# Altium schematic symbol library RES_RET_0805_1%.SchLib: 141 symbols
Pins are listed as number, name and electrical type; pins without a type are passive.

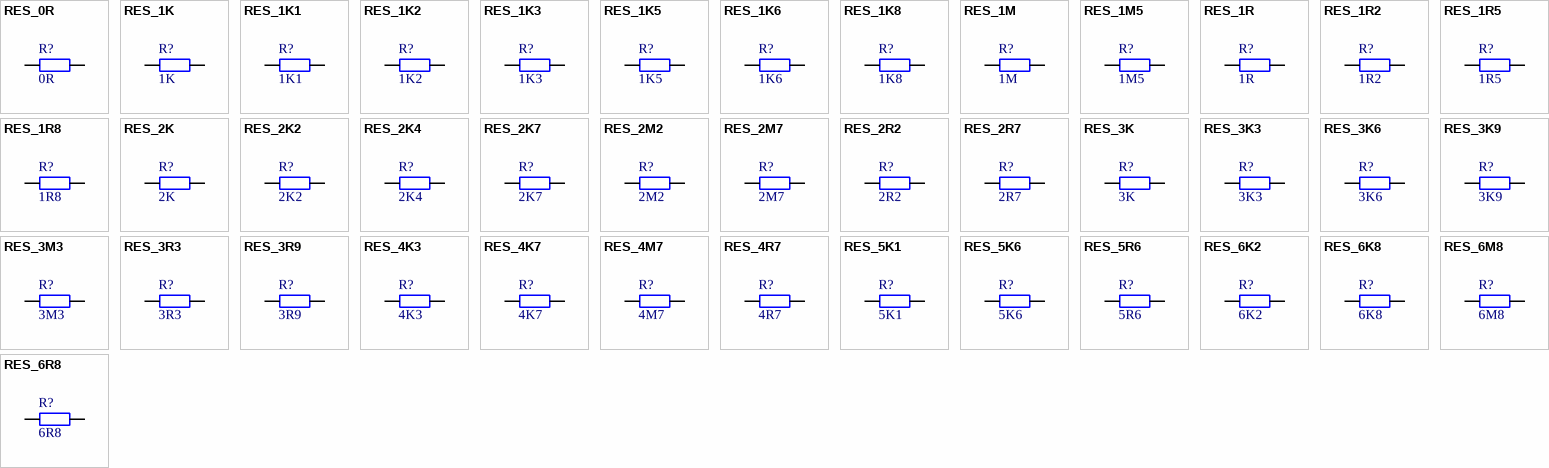
[diagram p0: symbols RES_0R to RES_6R8]

## RES_0R
designator R?, comment 0R
YAGEO SMD RESISTOR; Power: 125 mW; Tolerance: 5%; Supplier: RET 92-02-48
footprint FP_0805_RES (0805 ellenállás)
pins: 1, 2

## RES_1K
designator R?, comment 1K
YAGEO SMD RESISTOR; Power: 125 mW; Tolerance: 1%; Supplier: RET 96-02-06
footprint FP_0805_RES (0805 ellenállás)
pins: 1, 2

## RES_1K1
designator R?, comment 1K1
YAGEO SMD RESISTOR; Power: 125 mW; Tolerance: 1%; Supplier: RET 96-02-07
footprint FP_0805_RES (0805 ellenállás)
pins: 1, 2

## RES_1K2
designator R?, comment 1K2
YAGEO SMD RESISTOR; Power: 125 mW; Tolerance: 1%; Supplier: RET 96-02-08
footprint FP_0805_RES (0805 ellenállás)
pins: 1, 2

## RES_1K3
designator R?, comment 1K3
YAGEO SMD RESISTOR; Power: 125 mW; Tolerance: 1%; Supplier: RET 96-02-09
footprint FP_0805_RES (0805 ellenállás)
pins: 1, 2

## RES_1K5
designator R?, comment 1K5
YAGEO SMD RESISTOR; Power: 125 mW; Tolerance: 1%; Supplier: RET 96-02-10
footprint FP_0805_RES (0805 ellenállás)
pins: 1, 2

## RES_1K6
designator R?, comment 1K6
YAGEO SMD RESISTOR; Power: 125 mW; Tolerance: 1%; Supplier: RET 96-02-11
footprint FP_0805_RES (0805 ellenállás)
pins: 1, 2

## RES_1K8
designator R?, comment 1K8
YAGEO SMD RESISTOR; Power: 125 mW; Tolerance: 1%; Supplier: RET 96-02-12
footprint FP_0805_RES (0805 ellenállás)
pins: 1, 2

## RES_1M
designator R?, comment 1M
YAGEO SMD RESISTOR; Power: 125 mW; Tolerance: 1%; Supplier: RET 96-02-80
footprint FP_0805_RES (0805 ellenállás)
pins: 1, 2

## RES_1M5
designator R?, comment 1M5
YAGEO SMD RESISTOR; Power: 125 mW; Tolerance: 1%; Supplier: RET 96-02-81
footprint FP_0805_RES (0805 ellenállás)
pins: 1, 2

## RES_1R
designator R?, comment 1R
YAGEO SMD RESISTOR; Power: 125 mW; Tolerance: 1%; Supplier: RET 96-01-48
footprint FP_0805_RES (0805 ellenállás)
pins: 1, 2

## RES_1R2
designator R?, comment 1R2
YAGEO SMD RESISTOR; Power: 125 mW; Tolerance: 1%; Supplier: RET 96-01-49
footprint FP_0805_RES (0805 ellenállás)
pins: 1, 2

## RES_1R5
designator R?, comment 1R5
YAGEO SMD RESISTOR; Power: 125 mW; Tolerance: 1%; Supplier: RET 96-01-50
footprint FP_0805_RES (0805 ellenállás)
pins: 1, 2

## RES_1R8
designator R?, comment 1R8
YAGEO SMD RESISTOR; Power: 125 mW; Tolerance: 1%; Supplier: RET 96-01-51
footprint FP_0805_RES (0805 ellenállás)
pins: 1, 2

## RES_2K
designator R?, comment 2K
YAGEO SMD RESISTOR; Power: 125 mW; Tolerance: 1%; Supplier: RET 96-02-13
footprint FP_0805_RES (0805 ellenállás)
pins: 1, 2

## RES_2K2
designator R?, comment 2K2
YAGEO SMD RESISTOR; Power: 125 mW; Tolerance: 1%; Supplier: RET 96-02-14
footprint FP_0805_RES (0805 ellenállás)
pins: 1, 2

## RES_2K4
designator R?, comment 2K4
YAGEO SMD RESISTOR; Power: 125 mW; Tolerance: 1%; Supplier: RET 96-02-15
footprint FP_0805_RES (0805 ellenállás)
pins: 1, 2

## RES_2K7
designator R?, comment 2K7
YAGEO SMD RESISTOR; Power: 125 mW; Tolerance: 1%; Supplier: RET 96-02-16
footprint FP_0805_RES (0805 ellenállás)
pins: 1, 2

## RES_2M2
designator R?, comment 2M2
YAGEO SMD RESISTOR; Power: 125 mW; Tolerance: 1%; Supplier: RET 96-02-82
footprint FP_0805_RES (0805 ellenállás)
pins: 1, 2

## RES_2M7
designator R?, comment 2M7
YAGEO SMD RESISTOR; Power: 125 mW; Tolerance: 1%; Supplier: RET 96-05-23
footprint FP_0805_RES (0805 ellenállás)
pins: 1, 2

## RES_2R2
designator R?, comment 2R2
YAGEO SMD RESISTOR; Power: 125 mW; Tolerance: 1%; Supplier: RET 96-01-52
footprint FP_0805_RES (0805 ellenállás)
pins: 1, 2

## RES_2R7
designator R?, comment 2R7
YAGEO SMD RESISTOR; Power: 125 mW; Tolerance: 1%; Supplier: RET 96-01-53
footprint FP_0805_RES (0805 ellenállás)
pins: 1, 2

## RES_3K
designator R?, comment 3K
YAGEO SMD RESISTOR; Power: 125 mW; Tolerance: 1%; Supplier: RET 96-02-17
footprint FP_0805_RES (0805 ellenállás)
pins: 1, 2

## RES_3K3
designator R?, comment 3K3
YAGEO SMD RESISTOR; Power: 125 mW; Tolerance: 1%; Supplier: RET 96-02-18
footprint FP_0805_RES (0805 ellenállás)
pins: 1, 2

## RES_3K6
designator R?, comment 3K6
YAGEO SMD RESISTOR; Power: 125 mW; Tolerance: 1%; Supplier: RET 96-02-19
footprint FP_0805_RES (0805 ellenállás)
pins: 1, 2

## RES_3K9
designator R?, comment 3K9
YAGEO SMD RESISTOR; Power: 125 mW; Tolerance: 1%; Supplier: RET 96-02-20
footprint FP_0805_RES (0805 ellenállás)
pins: 1, 2

## RES_3M3
designator R?, comment 3M3
YAGEO SMD RESISTOR; Power: 125 mW; Tolerance: 1%; Supplier: RET 96-02-83
footprint FP_0805_RES (0805 ellenállás)
pins: 1, 2

## RES_3R3
designator R?, comment 3R3
YAGEO SMD RESISTOR; Power: 125 mW; Tolerance: 1%; Supplier: RET 96-01-54
footprint FP_0805_RES (0805 ellenállás)
pins: 1, 2

## RES_3R9
designator R?, comment 3R9
YAGEO SMD RESISTOR; Power: 125 mW; Tolerance: 1%; Supplier: RET 96-01-55
footprint FP_0805_RES (0805 ellenállás)
pins: 1, 2

## RES_4K3
designator R?, comment 4K3
YAGEO SMD RESISTOR; Power: 125 mW; Tolerance: 1%; Supplier: RET 96-02-21
footprint FP_0805_RES (0805 ellenállás)
pins: 1, 2

## RES_4K7
designator R?, comment 4K7
YAGEO SMD RESISTOR; Power: 125 mW; Tolerance: 1%; Supplier: RET 96-02-22
footprint FP_0805_RES (0805 ellenállás)
pins: 1, 2

## RES_4M7
designator R?, comment 4M7
YAGEO SMD RESISTOR; Power: 125 mW; Tolerance: 1%; Supplier: RET 96-02-84
footprint FP_0805_RES (0805 ellenállás)
pins: 1, 2

## RES_4R7
designator R?, comment 4R7
YAGEO SMD RESISTOR; Power: 125 mW; Tolerance: 1%; Supplier: RET 96-01-56
footprint FP_0805_RES (0805 ellenállás)
pins: 1, 2

## RES_5K1
designator R?, comment 5K1
YAGEO SMD RESISTOR; Power: 125 mW; Tolerance: 1%; Supplier: RET 96-02-23
footprint FP_0805_RES (0805 ellenállás)
pins: 1, 2

## RES_5K6
designator R?, comment 5K6
YAGEO SMD RESISTOR; Power: 125 mW; Tolerance: 1%; Supplier: RET 96-02-24
footprint FP_0805_RES (0805 ellenállás)
pins: 1, 2

## RES_5R6
designator R?, comment 5R6
YAGEO SMD RESISTOR; Power: 125 mW; Tolerance: 1%; Supplier: RET 96-01-57
footprint FP_0805_RES (0805 ellenállás)
pins: 1, 2

## RES_6K2
designator R?, comment 6K2
YAGEO SMD RESISTOR; Power: 125 mW; Tolerance: 1%; Supplier: RET 96-02-25
footprint FP_0805_RES (0805 ellenállás)
pins: 1, 2

## RES_6K8
designator R?, comment 6K8
YAGEO SMD RESISTOR; Power: 125 mW; Tolerance: 1%; Supplier: RET 96-02-26
footprint FP_0805_RES (0805 ellenállás)
pins: 1, 2

## RES_6M8
designator R?, comment 6M8
YAGEO SMD RESISTOR; Power: 125 mW; Tolerance: 1%; Supplier: RET 96-02-85
footprint FP_0805_RES (0805 ellenállás)
pins: 1, 2

## RES_6R8
designator R?, comment 6R8
YAGEO SMD RESISTOR; Power: 125 mW; Tolerance: 1%; Supplier: RET 96-01-58
footprint FP_0805_RES (0805 ellenállás)
pins: 1, 2

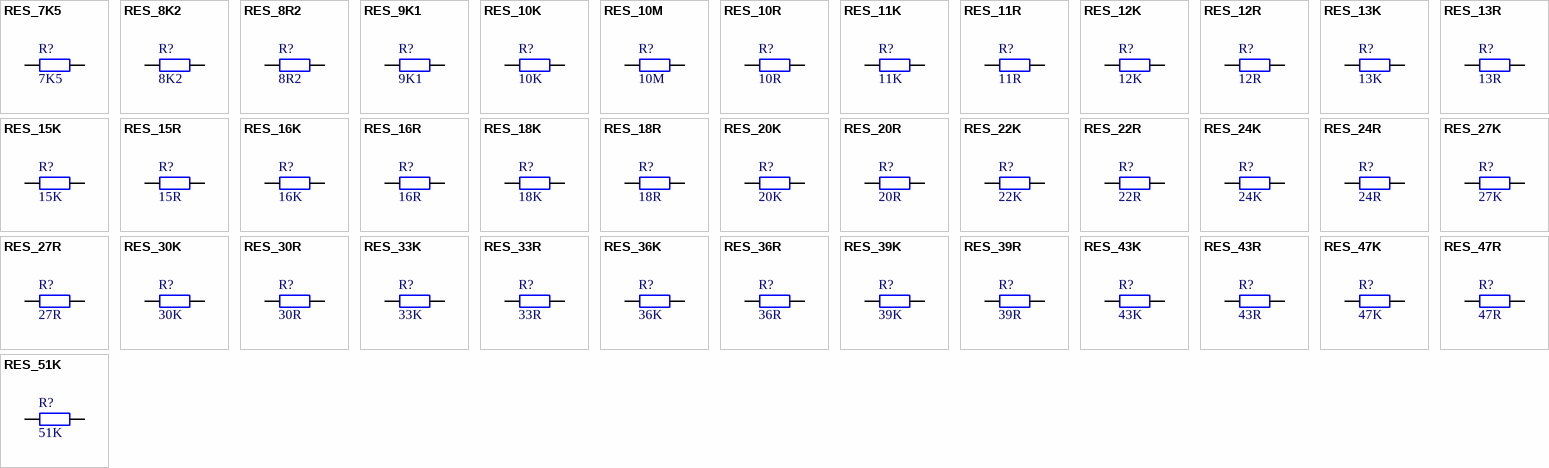
[diagram p1: symbols RES_7K5 to RES_51K]

## RES_7K5
designator R?, comment 7K5
YAGEO SMD RESISTOR; Power: 125 mW; Tolerance: 1%; Supplier: RET 96-02-27
footprint FP_0805_RES (0805 ellenállás)
pins: 1, 2

## RES_8K2
designator R?, comment 8K2
YAGEO SMD RESISTOR; Power: 125 mW; Tolerance: 1%; Supplier: RET 96-02-28
footprint FP_0805_RES (0805 ellenállás)
pins: 1, 2

## RES_8R2
designator R?, comment 8R2
YAGEO SMD RESISTOR; Power: 125 mW; Tolerance: 1%; Supplier: RET 96-01-59
footprint FP_0805_RES (0805 ellenállás)
pins: 1, 2

## RES_9K1
designator R?, comment 9K1
YAGEO SMD RESISTOR; Power: 125 mW; Tolerance: 1%; Supplier: RET 96-02-29
footprint FP_0805_RES (0805 ellenállás)
pins: 1, 2

## RES_10K
designator R?, comment 10K
YAGEO SMD RESISTOR; Power: 125 mW; Tolerance: 1%; Supplier: RET 96-02-32
footprint FP_0805_RES (0805 ellenállás)
pins: 1, 2

## RES_10M
designator R?, comment 10M
YAGEO SMD RESISTOR; Power: 125 mW; Tolerance: 1%; Supplier: RET 96-02-86
footprint FP_0805_RES (0805 ellenállás)
pins: 1, 2

## RES_10R
designator R?, comment 10R
YAGEO SMD RESISTOR; Power: 125 mW; Tolerance: 1%; Supplier: RET 96-01-60
footprint FP_0805_RES (0805 ellenállás)
pins: 1, 2

## RES_11K
designator R?, comment 11K
YAGEO SMD RESISTOR; Power: 125 mW; Tolerance: 1%; Supplier: RET 96-02-33
footprint FP_0805_RES (0805 ellenállás)
pins: 1, 2

## RES_11R
designator R?, comment 11R
YAGEO SMD RESISTOR; Power: 125 mW; Tolerance: 1%; Supplier: RET 96-01-61
footprint FP_0805_RES (0805 ellenállás)
pins: 1, 2

## RES_12K
designator R?, comment 12K
YAGEO SMD RESISTOR; Power: 125 mW; Tolerance: 1%; Supplier: RET 96-02-34
footprint FP_0805_RES (0805 ellenállás)
pins: 1, 2

## RES_12R
designator R?, comment 12R
YAGEO SMD RESISTOR; Power: 125 mW; Tolerance: 1%; Supplier: RET 96-01-62
footprint FP_0805_RES (0805 ellenállás)
pins: 1, 2

## RES_13K
designator R?, comment 13K
YAGEO SMD RESISTOR; Power: 125 mW; Tolerance: 1%; Supplier: RET 96-02-35
footprint FP_0805_RES (0805 ellenállás)
pins: 1, 2

## RES_13R
designator R?, comment 13R
YAGEO SMD RESISTOR; Power: 125 mW; Tolerance: 1%; Supplier: RET 96-01-63
footprint FP_0805_RES (0805 ellenállás)
pins: 1, 2

## RES_15K
designator R?, comment 15K
YAGEO SMD RESISTOR; Power: 125 mW; Tolerance: 1%; Supplier: RET 96-02-36
footprint FP_0805_RES (0805 ellenállás)
pins: 1, 2

## RES_15R
designator R?, comment 15R
YAGEO SMD RESISTOR; Power: 125 mW; Tolerance: 1%; Supplier: RET 96-01-64
footprint FP_0805_RES (0805 ellenállás)
pins: 1, 2

## RES_16K
designator R?, comment 16K
YAGEO SMD RESISTOR; Power: 125 mW; Tolerance: 1%; Supplier: RET 96-02-37
footprint FP_0805_RES (0805 ellenállás)
pins: 1, 2

## RES_16R
designator R?, comment 16R
YAGEO SMD RESISTOR; Power: 125 mW; Tolerance: 1%; Supplier: RET 96-01-65
footprint FP_0805_RES (0805 ellenállás)
pins: 1, 2

## RES_18K
designator R?, comment 18K
YAGEO SMD RESISTOR; Power: 125 mW; Tolerance: 1%; Supplier: RET 96-02-38
footprint FP_0805_RES (0805 ellenállás)
pins: 1, 2

## RES_18R
designator R?, comment 18R
YAGEO SMD RESISTOR; Power: 125 mW; Tolerance: 1%; Supplier: RET 96-01-66
footprint FP_0805_RES (0805 ellenállás)
pins: 1, 2

## RES_20K
designator R?, comment 20K
YAGEO SMD RESISTOR; Power: 125 mW; Tolerance: 1%; Supplier: RET 96-02-39
footprint FP_0805_RES (0805 ellenállás)
pins: 1, 2

## RES_20R
designator R?, comment 20R
YAGEO SMD RESISTOR; Power: 125 mW; Tolerance: 1%; Supplier: RET 96-01-67
footprint FP_0805_RES (0805 ellenállás)
pins: 1, 2

## RES_22K
designator R?, comment 22K
YAGEO SMD RESISTOR; Power: 125 mW; Tolerance: 1%; Supplier: RET 96-02-40
footprint FP_0805_RES (0805 ellenállás)
pins: 1, 2

## RES_22R
designator R?, comment 22R
YAGEO SMD RESISTOR; Power: 125 mW; Tolerance: 1%; Supplier: RET 96-01-68
footprint FP_0805_RES (0805 ellenállás)
pins: 1, 2

## RES_24K
designator R?, comment 24K
YAGEO SMD RESISTOR; Power: 125 mW; Tolerance: 1%; Supplier: RET 96-02-41
footprint FP_0805_RES (0805 ellenállás)
pins: 1, 2

## RES_24R
designator R?, comment 24R
YAGEO SMD RESISTOR; Power: 125 mW; Tolerance: 1%; Supplier: RET 96-01-69
footprint FP_0805_RES (0805 ellenállás)
pins: 1, 2

## RES_27K
designator R?, comment 27K
YAGEO SMD RESISTOR; Power: 125 mW; Tolerance: 1%; Supplier: RET 96-02-42
footprint FP_0805_RES (0805 ellenállás)
pins: 1, 2

## RES_27R
designator R?, comment 27R
YAGEO SMD RESISTOR; Power: 125 mW; Tolerance: 1%; Supplier: RET 96-01-70
footprint FP_0805_RES (0805 ellenállás)
pins: 1, 2

## RES_30K
designator R?, comment 30K
YAGEO SMD RESISTOR; Power: 125 mW; Tolerance: 1%; Supplier: RET 96-02-43
footprint FP_0805_RES (0805 ellenállás)
pins: 1, 2

## RES_30R
designator R?, comment 30R
YAGEO SMD RESISTOR; Power: 125 mW; Tolerance: 1%; Supplier: RET 96-01-71
footprint FP_0805_RES (0805 ellenállás)
pins: 1, 2

## RES_33K
designator R?, comment 33K
YAGEO SMD RESISTOR; Power: 125 mW; Tolerance: 1%; Supplier: RET 96-02-44
footprint FP_0805_RES (0805 ellenállás)
pins: 1, 2

## RES_33R
designator R?, comment 33R
YAGEO SMD RESISTOR; Power: 125 mW; Tolerance: 1%; Supplier: RET 96-01-72
footprint FP_0805_RES (0805 ellenállás)
pins: 1, 2

## RES_36K
designator R?, comment 36K
YAGEO SMD RESISTOR; Power: 125 mW; Tolerance: 1%; Supplier: RET 96-02-45
footprint FP_0805_RES (0805 ellenállás)
pins: 1, 2

## RES_36R
designator R?, comment 36R
YAGEO SMD RESISTOR; Power: 125 mW; Tolerance: 1%; Supplier: RET 96-01-73
footprint FP_0805_RES (0805 ellenállás)
pins: 1, 2

## RES_39K
designator R?, comment 39K
YAGEO SMD RESISTOR; Power: 125 mW; Tolerance: 1%; Supplier: RET 96-02-46
footprint FP_0805_RES (0805 ellenállás)
pins: 1, 2

## RES_39R
designator R?, comment 39R
YAGEO SMD RESISTOR; Power: 125 mW; Tolerance: 1%; Supplier: RET 96-01-74
footprint FP_0805_RES (0805 ellenállás)
pins: 1, 2

## RES_43K
designator R?, comment 43K
YAGEO SMD RESISTOR; Power: 125 mW; Tolerance: 1%; Supplier: RET 96-02-47
footprint FP_0805_RES (0805 ellenállás)
pins: 1, 2

## RES_43R
designator R?, comment 43R
YAGEO SMD RESISTOR; Power: 125 mW; Tolerance: 1%; Supplier: RET 96-01-75
footprint FP_0805_RES (0805 ellenállás)
pins: 1, 2

## RES_47K
designator R?, comment 47K
YAGEO SMD RESISTOR; Power: 125 mW; Tolerance: 1%; Supplier: RET 96-02-48
footprint FP_0805_RES (0805 ellenállás)
pins: 1, 2

## RES_47R
designator R?, comment 47R
YAGEO SMD RESISTOR; Power: 125 mW; Tolerance: 1%; Supplier: RET 96-01-76
footprint FP_0805_RES (0805 ellenállás)
pins: 1, 2

## RES_51K
designator R?, comment 51K
YAGEO SMD RESISTOR; Power: 125 mW; Tolerance: 1%; Supplier: RET 96-02-49
footprint FP_0805_RES (0805 ellenállás)
pins: 1, 2

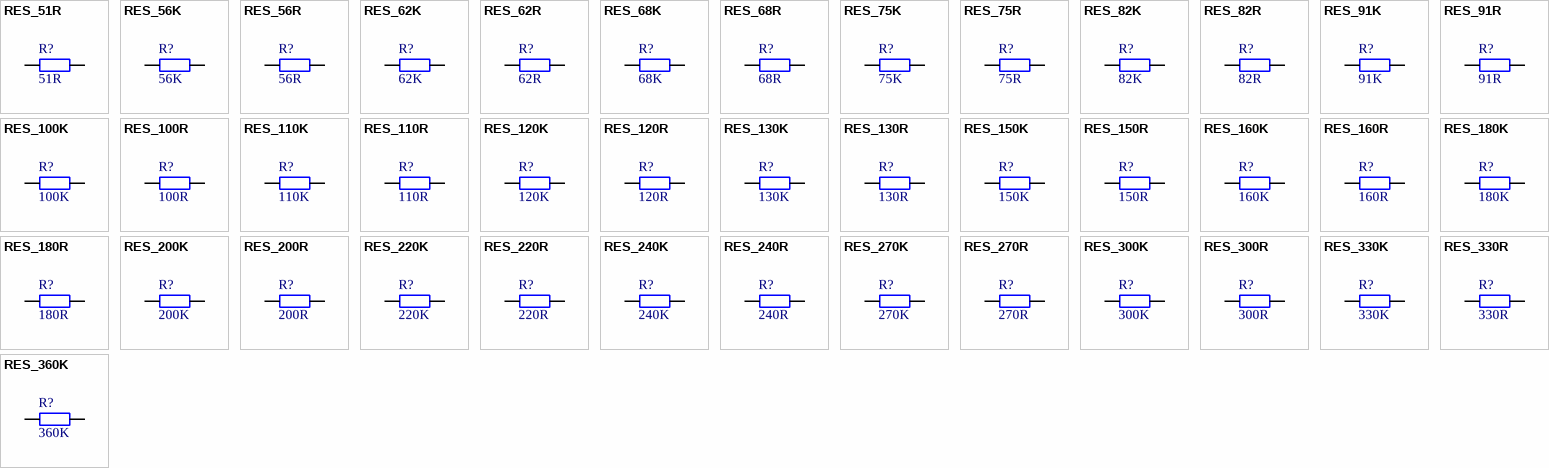
[diagram p2: symbols RES_51R to RES_360K]

## RES_51R
designator R?, comment 51R
YAGEO SMD RESISTOR; Power: 125 mW; Tolerance: 1%; Supplier: RET 96-01-77
footprint FP_0805_RES (0805 ellenállás)
pins: 1, 2

## RES_56K
designator R?, comment 56K
YAGEO SMD RESISTOR; Power: 125 mW; Tolerance: 1%; Supplier: RET 96-02-50
footprint FP_0805_RES (0805 ellenállás)
pins: 1, 2

## RES_56R
designator R?, comment 56R
YAGEO SMD RESISTOR; Power: 125 mW; Tolerance: 1%; Supplier: RET 96-01-78
footprint FP_0805_RES (0805 ellenállás)
pins: 1, 2

## RES_62K
designator R?, comment 62K
YAGEO SMD RESISTOR; Power: 125 mW; Tolerance: 1%; Supplier: RET 96-02-51
footprint FP_0805_RES (0805 ellenállás)
pins: 1, 2

## RES_62R
designator R?, comment 62R
YAGEO SMD RESISTOR; Power: 125 mW; Tolerance: 1%; Supplier: RET 96-01-79
footprint FP_0805_RES (0805 ellenállás)
pins: 1, 2

## RES_68K
designator R?, comment 68K
YAGEO SMD RESISTOR; Power: 125 mW; Tolerance: 1%; Supplier: RET 96-02-52
footprint FP_0805_RES (0805 ellenállás)
pins: 1, 2

## RES_68R
designator R?, comment 68R
YAGEO SMD RESISTOR; Power: 125 mW; Tolerance: 1%; Supplier: RET 96-01-80
footprint FP_0805_RES (0805 ellenállás)
pins: 1, 2

## RES_75K
designator R?, comment 75K
YAGEO SMD RESISTOR; Power: 125 mW; Tolerance: 1%; Supplier: RET 96-02-53
footprint FP_0805_RES (0805 ellenállás)
pins: 1, 2

## RES_75R
designator R?, comment 75R
YAGEO SMD RESISTOR; Power: 125 mW; Tolerance: 1%; Supplier: RET 96-01-81
footprint FP_0805_RES (0805 ellenállás)
pins: 1, 2

## RES_82K
designator R?, comment 82K
YAGEO SMD RESISTOR; Power: 125 mW; Tolerance: 1%; Supplier: RET 96-02-54
footprint FP_0805_RES (0805 ellenállás)
pins: 1, 2

## RES_82R
designator R?, comment 82R
YAGEO SMD RESISTOR; Power: 125 mW; Tolerance: 1%; Supplier: RET 96-01-82
footprint FP_0805_RES (0805 ellenállás)
pins: 1, 2

## RES_91K
designator R?, comment 91K
YAGEO SMD RESISTOR; Power: 125 mW; Tolerance: 1%; Supplier: RET 96-02-55
footprint FP_0805_RES (0805 ellenállás)
pins: 1, 2

## RES_91R
designator R?, comment 91R
YAGEO SMD RESISTOR; Power: 125 mW; Tolerance: 1%; Supplier: RET 96-02-30
footprint FP_0805_RES (0805 ellenállás)
pins: 1, 2

## RES_100K
designator R?, comment 100K
YAGEO SMD RESISTOR; Power: 125 mW; Tolerance: 1%; Supplier: RET 96-02-56
footprint FP_0805_RES (0805 ellenállás)
pins: 1, 2

## RES_100R
designator R?, comment 100R
YAGEO SMD RESISTOR; Power: 125 mW; Tolerance: 1%; Supplier: RET 96-01-83
footprint FP_0805_RES (0805 ellenállás)
pins: 1, 2

## RES_110K
designator R?, comment 110K
YAGEO SMD RESISTOR; Power: 125 mW; Tolerance: 1%; Supplier: RET 96-02-57
footprint FP_0805_RES (0805 ellenállás)
pins: 1, 2

## RES_110R
designator R?, comment 110R
YAGEO SMD RESISTOR; Power: 125 mW; Tolerance: 1%; Supplier: RET 96-01-84
footprint FP_0805_RES (0805 ellenállás)
pins: 1, 2

## RES_120K
designator R?, comment 120K
YAGEO SMD RESISTOR; Power: 125 mW; Tolerance: 1%; Supplier: RET 96-02-58
footprint FP_0805_RES (0805 ellenállás)
pins: 1, 2

## RES_120R
designator R?, comment 120R
YAGEO SMD RESISTOR; Power: 125 mW; Tolerance: 1%; Supplier: RET 96-01-85
footprint FP_0805_RES (0805 ellenállás)
pins: 1, 2

## RES_130K
designator R?, comment 130K
YAGEO SMD RESISTOR; Power: 125 mW; Tolerance: 1%; Supplier: RET 96-02-59
footprint FP_0805_RES (0805 ellenállás)
pins: 1, 2

## RES_130R
designator R?, comment 130R
YAGEO SMD RESISTOR; Power: 125 mW; Tolerance: 1%; Supplier: RET 96-01-86
footprint FP_0805_RES (0805 ellenállás)
pins: 1, 2

## RES_150K
designator R?, comment 150K
YAGEO SMD RESISTOR; Power: 125 mW; Tolerance: 1%; Supplier: RET 96-02-60
footprint FP_0805_RES (0805 ellenállás)
pins: 1, 2

## RES_150R
designator R?, comment 150R
YAGEO SMD RESISTOR; Power: 125 mW; Tolerance: 1%; Supplier: RET 96-01-87
footprint FP_0805_RES (0805 ellenállás)
pins: 1, 2

## RES_160K
designator R?, comment 160K
YAGEO SMD RESISTOR; Power: 125 mW; Tolerance: 1%; Supplier: RET 96-02-61
footprint FP_0805_RES (0805 ellenállás)
pins: 1, 2

## RES_160R
designator R?, comment 160R
YAGEO SMD RESISTOR; Power: 125 mW; Tolerance: 1%; Supplier: RET 96-01-88
footprint FP_0805_RES (0805 ellenállás)
pins: 1, 2

## RES_180K
designator R?, comment 180K
YAGEO SMD RESISTOR; Power: 125 mW; Tolerance: 1%; Supplier: RET 96-02-62
footprint FP_0805_RES (0805 ellenállás)
pins: 1, 2

## RES_180R
designator R?, comment 180R
YAGEO SMD RESISTOR; Power: 125 mW; Tolerance: 1%; Supplier: RET 96-01-89
footprint FP_0805_RES (0805 ellenállás)
pins: 1, 2

## RES_200K
designator R?, comment 200K
YAGEO SMD RESISTOR; Power: 125 mW; Tolerance: 1%; Supplier: RET 96-02-63
footprint FP_0805_RES (0805 ellenállás)
pins: 1, 2

## RES_200R
designator R?, comment 200R
YAGEO SMD RESISTOR; Power: 125 mW; Tolerance: 1%; Supplier: RET 96-01-90
footprint FP_0805_RES (0805 ellenállás)
pins: 1, 2

## RES_220K
designator R?, comment 220K
YAGEO SMD RESISTOR; Power: 125 mW; Tolerance: 1%; Supplier: RET 96-02-64
footprint FP_0805_RES (0805 ellenállás)
pins: 1, 2

## RES_220R
designator R?, comment 220R
YAGEO SMD RESISTOR; Power: 125 mW; Tolerance: 1%; Supplier: RET 96-01-91
footprint FP_0805_RES (0805 ellenállás)
pins: 1, 2

## RES_240K
designator R?, comment 240K
YAGEO SMD RESISTOR; Power: 125 mW; Tolerance: 1%; Supplier: RET 96-02-65
footprint FP_0805_RES (0805 ellenállás)
pins: 1, 2

## RES_240R
designator R?, comment 240R
YAGEO SMD RESISTOR; Power: 125 mW; Tolerance: 1%; Supplier: RET 96-01-92
footprint FP_0805_RES (0805 ellenállás)
pins: 1, 2

## RES_270K
designator R?, comment 270K
YAGEO SMD RESISTOR; Power: 125 mW; Tolerance: 1%; Supplier: RET 96-02-66
footprint FP_0805_RES (0805 ellenállás)
pins: 1, 2

## RES_270R
designator R?, comment 270R
YAGEO SMD RESISTOR; Power: 125 mW; Tolerance: 1%; Supplier: RET 96-01-93
footprint FP_0805_RES (0805 ellenállás)
pins: 1, 2

## RES_300K
designator R?, comment 300K
YAGEO SMD RESISTOR; Power: 125 mW; Tolerance: 1%; Supplier: RET 96-02-67
footprint FP_0805_RES (0805 ellenállás)
pins: 1, 2

## RES_300R
designator R?, comment 300R
YAGEO SMD RESISTOR; Power: 125 mW; Tolerance: 1%; Supplier: RET 96-01-94
footprint FP_0805_RES (0805 ellenállás)
pins: 1, 2

## RES_330K
designator R?, comment 330K
YAGEO SMD RESISTOR; Power: 125 mW; Tolerance: 1%; Supplier: RET 96-02-68
footprint FP_0805_RES (0805 ellenállás)
pins: 1, 2

## RES_330R
designator R?, comment 330R
YAGEO SMD RESISTOR; Power: 125 mW; Tolerance: 1%; Supplier: RET 96-01-95
footprint FP_0805_RES (0805 ellenállás)
pins: 1, 2

## RES_360K
designator R?, comment 360K
YAGEO SMD RESISTOR; Power: 125 mW; Tolerance: 1%; Supplier: RET 96-02-69
footprint FP_0805_RES (0805 ellenállás)
pins: 1, 2

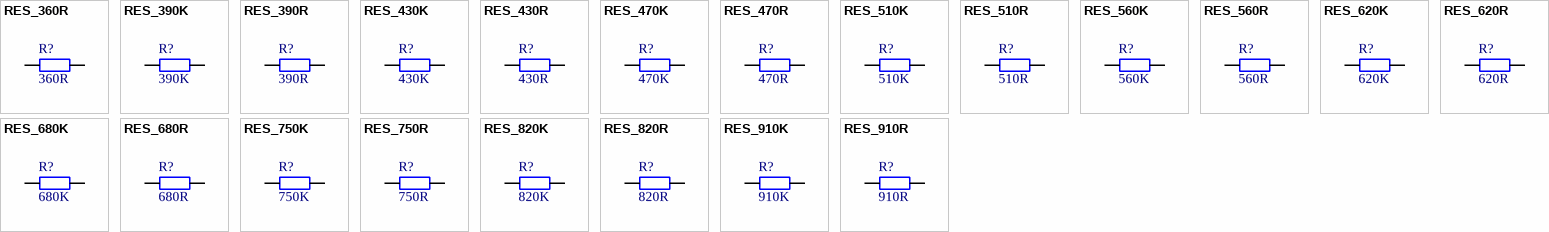
[diagram p3: symbols RES_360R to RES_910R]

## RES_360R
designator R?, comment 360R
YAGEO SMD RESISTOR; Power: 125 mW; Tolerance: 1%; Supplier: RET 96-01-96
footprint FP_0805_RES (0805 ellenállás)
pins: 1, 2

## RES_390K
designator R?, comment 390K
YAGEO SMD RESISTOR; Power: 125 mW; Tolerance: 1%; Supplier: RET 96-02-70
footprint FP_0805_RES (0805 ellenállás)
pins: 1, 2

## RES_390R
designator R?, comment 390R
YAGEO SMD RESISTOR; Power: 125 mW; Tolerance: 1%; Supplier: RET 96-01-97
footprint FP_0805_RES (0805 ellenállás)
pins: 1, 2

## RES_430K
designator R?, comment 430K
YAGEO SMD RESISTOR; Power: 125 mW; Tolerance: 1%; Supplier: RET 96-02-71
footprint FP_0805_RES (0805 ellenállás)
pins: 1, 2

## RES_430R
designator R?, comment 430R
YAGEO SMD RESISTOR; Power: 125 mW; Tolerance: 1%; Supplier: RET 96-01-98
footprint FP_0805_RES (0805 ellenállás)
pins: 1, 2

## RES_470K
designator R?, comment 470K
YAGEO SMD RESISTOR; Power: 125 mW; Tolerance: 1%; Supplier: RET 96-02-72
footprint FP_0805_RES (0805 ellenállás)
pins: 1, 2

## RES_470R
designator R?, comment 470R
YAGEO SMD RESISTOR; Power: 125 mW; Tolerance: 1%; Supplier: RET 96-01-99
footprint FP_0805_RES (0805 ellenállás)
pins: 1, 2

## RES_510K
designator R?, comment 510K
YAGEO SMD RESISTOR; Power: 125 mW; Tolerance: 1%; Supplier: RET 96-02-73
footprint FP_0805_RES (0805 ellenállás)
pins: 1, 2

## RES_510R
designator R?, comment 510R
YAGEO SMD RESISTOR; Power: 125 mW; Tolerance: 1%; Supplier: RET 96-02-00
footprint FP_0805_RES (0805 ellenállás)
pins: 1, 2

## RES_560K
designator R?, comment 560K
YAGEO SMD RESISTOR; Power: 125 mW; Tolerance: 1%; Supplier: RET 96-02-74
footprint FP_0805_RES (0805 ellenállás)
pins: 1, 2

## RES_560R
designator R?, comment 560R
YAGEO SMD RESISTOR; Power: 125 mW; Tolerance: 1%; Supplier: RET 96-02-01
footprint FP_0805_RES (0805 ellenállás)
pins: 1, 2

## RES_620K
designator R?, comment 620K
YAGEO SMD RESISTOR; Power: 125 mW; Tolerance: 1%; Supplier: RET 96-02-75
footprint FP_0805_RES (0805 ellenállás)
pins: 1, 2

## RES_620R
designator R?, comment 620R
YAGEO SMD RESISTOR; Power: 125 mW; Tolerance: 1%; Supplier: RET 96-02-02
footprint FP_0805_RES (0805 ellenállás)
pins: 1, 2

## RES_680K
designator R?, comment 680K
YAGEO SMD RESISTOR; Power: 125 mW; Tolerance: 1%; Supplier: RET 96-02-76
footprint FP_0805_RES (0805 ellenállás)
pins: 1, 2

## RES_680R
designator R?, comment 680R
YAGEO SMD RESISTOR; Power: 125 mW; Tolerance: 1%; Supplier: RET 96-02-03
footprint FP_0805_RES (0805 ellenállás)
pins: 1, 2

## RES_750K
designator R?, comment 750K
YAGEO SMD RESISTOR; Power: 125 mW; Tolerance: 1%; Supplier: RET 96-02-77
footprint FP_0805_RES (0805 ellenállás)
pins: 1, 2

## RES_750R
designator R?, comment 750R
YAGEO SMD RESISTOR; Power: 125 mW; Tolerance: 1%; Supplier: RET 96-02-04
footprint FP_0805_RES (0805 ellenállás)
pins: 1, 2

## RES_820K
designator R?, comment 820K
YAGEO SMD RESISTOR; Power: 125 mW; Tolerance: 1%; Supplier: RET 96-02-78
footprint FP_0805_RES (0805 ellenállás)
pins: 1, 2

## RES_820R
designator R?, comment 820R
YAGEO SMD RESISTOR; Power: 125 mW; Tolerance: 1%; Supplier: RET 96-02-05
footprint FP_0805_RES (0805 ellenállás)
pins: 1, 2

## RES_910K
designator R?, comment 910K
YAGEO SMD RESISTOR; Power: 125 mW; Tolerance: 1%; Supplier: RET 96-02-79
footprint FP_0805_RES (0805 ellenállás)
pins: 1, 2

## RES_910R
designator R?, comment 910R
YAGEO SMD RESISTOR; Power: 125 mW; Tolerance: 1%; Supplier: RET 96-02-31
footprint FP_0805_RES (0805 ellenállás)
pins: 1, 2